# Altium footprint library BGT60LTR11AIP_Shield_V2.0.PcbLib: 14 footprints
Each footprint in its own frame and in the unit in brackets; x right, y up, seen from the top. Pads: shape width x height; smd on the part's side, far side on the other; paste and mask are expansions set on the pad; w line width, h text height; cw(c..) or ccw(c..) is an arc to the next point about the centre after c.
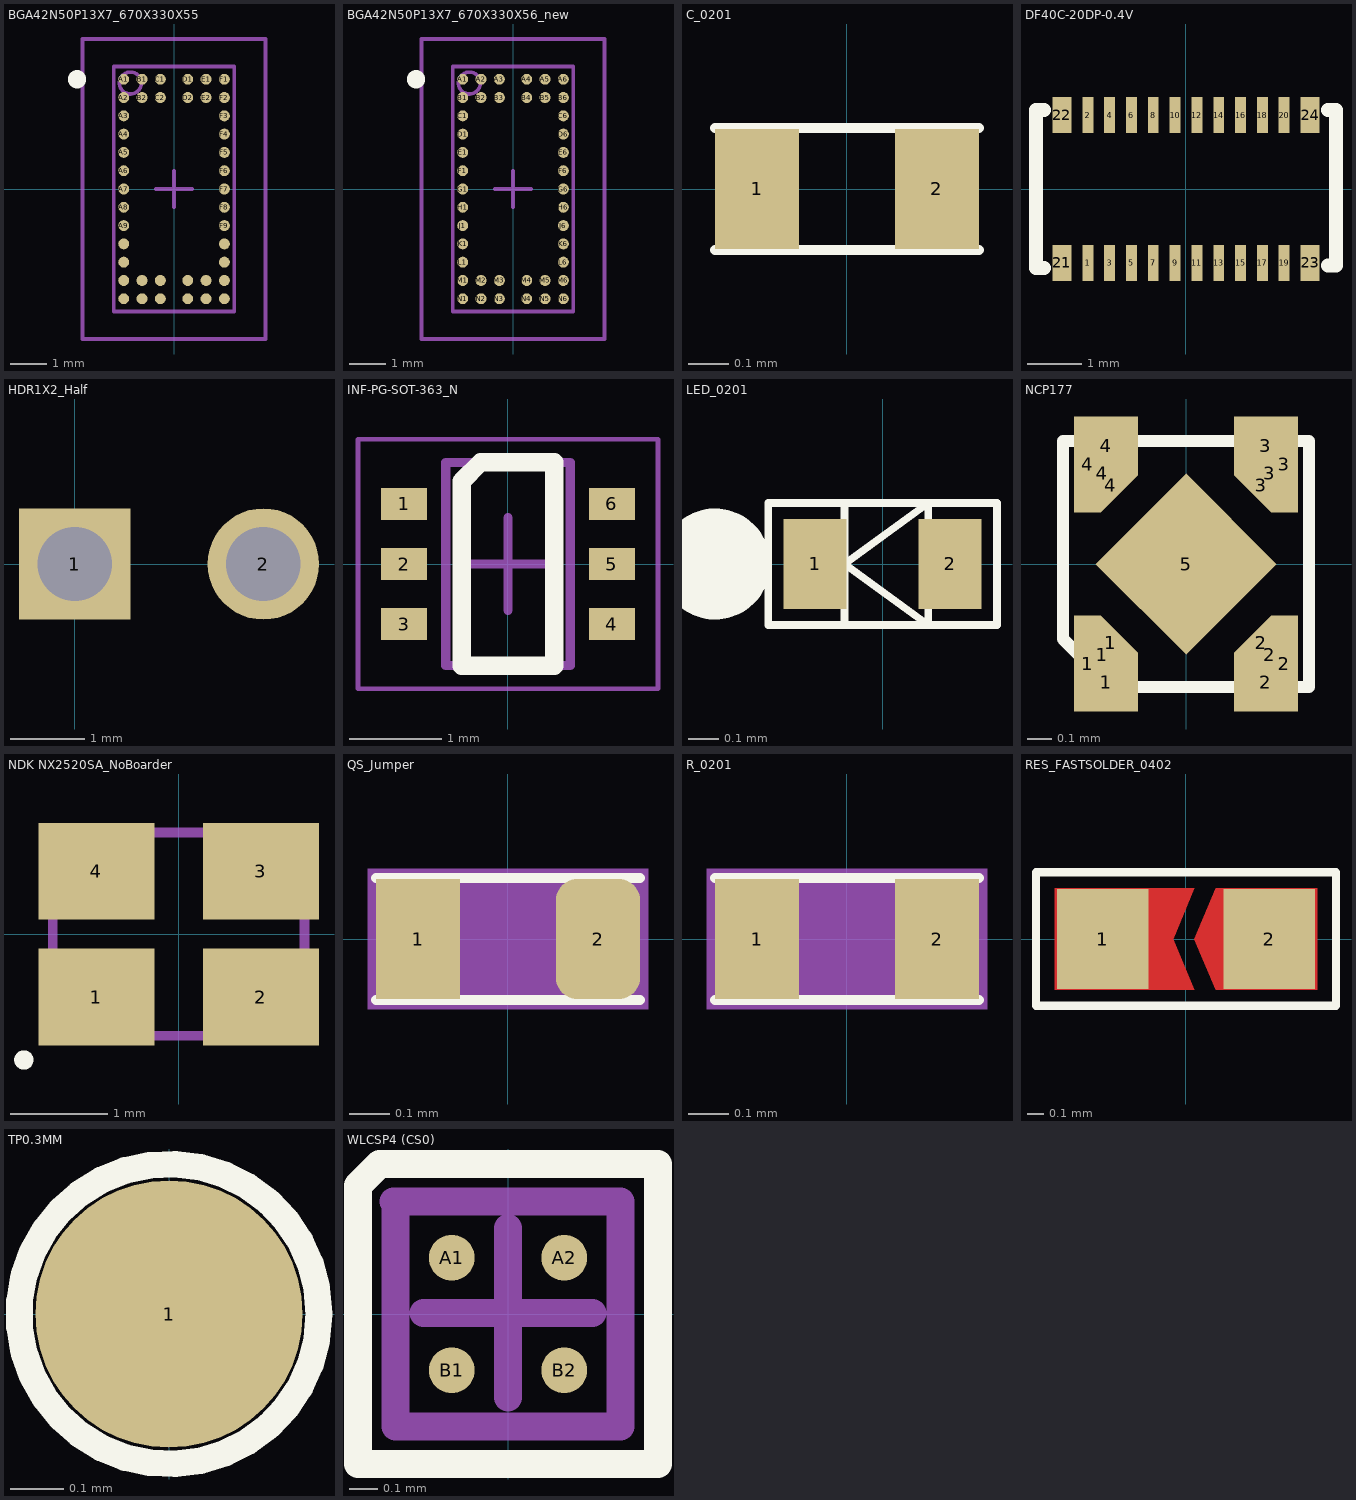
[diagram p0: the footprints below, top view; thin cyan lines are the x and y axes]

## BGA42N50P13X7_670X330X55 [mm] "BGA, SMD, 0.50 mm pitch, 42 pin, 3.30 mm X 6.70 mm X 0.552 mm H Body"
height 0.552
pads (42):
  round 0.3 smd paste+0 mask+0: A1(-1.375,3) A2(-1.375,2.5) A3(-1.375,2) A4(-1.375,1.5) A5(-1.375,1) A6(-1.375,0.5) A7(-1.375,0) A8(-1.375,-0.5) A9(-1.375,-1) A10(-1.375,-1.5) A11(-1.375,-2) A12(-1.375,-2.5) A13(-1.375,-3) B1(-0.875,3) B2(-0.875,2.5) B12(-0.875,-2.5) B13(-0.875,-3) C1(-0.375,3) C2(-0.375,2.5) C12(-0.375,-2.5) C13(-0.375,-3) D1(0.375,3) D2(0.375,2.5) D12(0.375,-2.5) D13(0.375,-3) E1(0.875,3) E2(0.875,2.5) E12(0.875,-2.5) E13(0.875,-3) F1(1.375,3) F2(1.375,2.5) F3(1.375,2) F4(1.375,1.5) F5(1.375,1) F6(1.375,0.5) F7(1.375,0) F8(1.375,-0.5) F9(1.375,-1) F10(1.375,-1.5) F11(1.375,-2) F12(1.375,-2.5) F13(1.375,-3)
Top Overlay:
  circle w0.25: c-2.65,3 r0.125
Mechanical 3:
  text ".DESIGNATOR" at 0,0 h1.2
Mechanical 13:
  circle w0.1: c-1.194,2.896 r0.3
  lines w0.1: -1.65,-3.35 -1.65,3.35 1.65,3.35 1.65,-3.35 -1.65,-3.35
Mechanical 15:
  lines w0.1: -0.5,0 0.5,0 ; 0,-0.5 0,0.5 ; -2.5,-4.1 -2.5,4.1 2.5,4.1 2.5,-4.1 -2.5,-4.1
3D body "BGA_0.5P_3.30X6.70X0.552.STEP": height 0.55, standoff 0, extent -1.65,-3.35 1.65,3.35

## BGA42N50P13X7_670X330X56_new [mm] "BGA, SMD, 0.50 mm pitch, 42 pin, 3.30 mm X 6.70 mm X 0.56 mm H Body"
height 0.56
pads (42):
  round 0.3 smd paste+0 mask+0: A1(-1.375,3) A2(-0.875,3) A3(-0.375,3) A4(0.375,3) A5(0.875,3) A6(1.375,3) B1(-1.375,2.5) B2(-0.875,2.5) B3(-0.375,2.5) B4(0.375,2.5) B5(0.875,2.5) B6(1.375,2.5) C1(-1.375,2) C6(1.375,2) D1(-1.375,1.5) D6(1.375,1.5) E1(-1.375,1) E6(1.375,1) F1(-1.375,0.5) F6(1.375,0.5) G1(-1.375,0) G6(1.375,0) H1(-1.375,-0.5) H6(1.375,-0.5) J1(-1.375,-1) J6(1.375,-1) K1(-1.375,-1.5) K6(1.375,-1.5) L1(-1.375,-2) L6(1.375,-2) M1(-1.375,-2.5) M2(-0.875,-2.5) M3(-0.375,-2.5) M4(0.375,-2.5) M5(0.875,-2.5) M6(1.375,-2.5) N1(-1.375,-3) N2(-0.875,-3) N3(-0.375,-3) N4(0.375,-3) N5(0.875,-3) N6(1.375,-3)
Top Overlay:
  circle w0.25: c-2.65,3 r0.125
Mechanical 3:
  text ".DESIGNATOR" at 0,0 h1.2
Mechanical 13:
  circle w0.1: c-1.194,2.896 r0.3
  lines w0.1: -1.65,-3.35 -1.65,3.35 1.65,3.35 1.65,-3.35 -1.65,-3.35
Mechanical 15:
  lines w0.1: -0.5,0 0.5,0 ; 0,-0.5 0,0.5 ; -2.5,-4.1 -2.5,4.1 2.5,4.1 2.5,-4.1 -2.5,-4.1
3D body "BGA-42_0.5P_3.30X6.70X0.56.STEP": height 0.56, standoff 0, extent -1.65,-3.35 1.65,3.35

## C_0201 [mm] "C_0201"
pads (2):
  rect 0.21x0.3 smd mask+0.051: 1(-0.225,0) 2(0.225,0)
Top Overlay:
  lines w0.025: -0.33,-0.152 0.33,-0.152 ; -0.33,0.152 0.33,0.152
3D body "User Library-cap_0201.step": height 0.3, standoff 0, extent -0.3,-0.15 0.3,0.15

## DF40C-20DP-0.4V [mm] "Hirose DF40C-20DP-0.4V"
height 1.75
pads (24):
  rect 0.2x0.66 smd: 1(-1.8,-1.355) 2(-1.8,1.355) 3(-1.4,-1.355) 4(-1.4,1.355) 5(-1,-1.355) 6(-1,1.355) 7(-0.6,-1.355) 8(-0.6,1.355) 9(-0.2,-1.355) 10(-0.2,1.355) 11(0.2,-1.355) 12(0.2,1.355) 13(0.6,-1.355) 14(0.6,1.355) 15(1,-1.355) 16(1,1.355) 17(1.4,-1.355) 18(1.4,1.355) 19(1.8,-1.355) 20(1.8,1.355)
  rect 0.35x0.66 smd: 21(-2.275,-1.355) 22(-2.275,1.355) 23(2.275,-1.355) 24(2.275,1.355)
Top Overlay:
  lines w0.254: -2.6,-1.45 -2.75,-1.45 -2.75,1.45 -2.6,1.45 ; 2.6,-1.4 2.75,-1.4 2.75,1.45 2.6,1.45
3D body "DF40C-20DP.stp": height 1.09, standoff -0.05, extent -2.76,-1.5 2.76,1.47

## HDR1X2_Half [mm] "Connector; Header; 2 Position"
height 0.5
pads (2):
  rect 1.5x1.5 hole 1: 1(0,0)
  round 1.5 hole 1: 2(2.54,0)

## INF-PG-SOT-363_N [mm] "SOT23, 3-Leads, Body 2x1.25mm, Pitch 0.65mm, IPC Medium Density"
height 1
pads (6):
  rect 0.5x0.35 smd: 1(-1.125,0.65) 2(-1.125,0) 3(-1.125,-0.65) 4(1.125,-0.65) 5(1.125,0) 6(1.125,0.65)
Top Overlay:
  lines w0.2: -0.5,-1.1 0.5,-1.1 0.5,1.1 -0.297,1.1 -0.5,0.897 -0.5,-1.1
Mechanical 13:
  lines w0.1: -0.675,-1.1 0.675,-1.1 0.675,1.1 -0.675,1.1 -0.675,-1.1
Mechanical 15:
  lines w0.05: -1.625,-1.35 1.625,-1.35 1.625,1.35 -1.625,1.35 -1.625,-1.35
  lines w0.1: -0.5,0 0.5,0 ; 0,-0.5 0,0.5
3D body "User Library-SOT363-1.step": height 1, standoff 0, extent -1.15,-1.05 1.15,1.05

## LED_0201 [mm] "LED_0201"
pads (2):
  rect 0.21x0.3 smd mask+0.051: 1(-0.225,0) 2(0.225,0)
Top Overlay:
  circle w0.25: c-0.559,0 r0.06
  lines w0.025: -0.127,-0.203 -0.127,0.203 ; -0.381,-0.203 0.381,-0.203 0.381,0.203 -0.381,0.203 -0.381,-0.203 ; -0.127,0 0.152,-0.203 0.152,0.203 -0.127,0
3D body: height 0.13, standoff 0, extent -0.3,-0.15 0.3,0.15

## NCP177 [mm] "LDO 500mA"
pads (17):
  rect 0.11x0.39 smd: 1(-0.4,-0.405) 2(0.4,-0.405) 3(0.4,0.405) 4(-0.4,0.405)
  rect 0.1x0.1 smd: 1(-0.34,-0.37) 2(0.34,-0.37) 3(0.34,0.37) 4(-0.34,0.37)
  rect 0.26x0.24 smd: 1(-0.325,-0.48) 2(0.325,-0.48) 3(0.325,0.48) 4(-0.325,0.48)
  rect 0.1x0.212 smd rot 45: 1(-0.305,-0.321) 3(0.305,0.321)
  rect 0.212x0.1 smd rot 45: 2(0.305,-0.321) 4(-0.305,0.321)
  rect 0.52x0.52 smd rot 45: 5(0,0)
Top Overlay:
  lines w0.05: -0.5,-0.305 -0.305,-0.5 0.5,-0.5 0.5,0.5 -0.5,0.5 -0.5,-0.305
3D body: height 0.4, standoff 0, extent -0.5,-0.5 0.5,0.5

## NDK NX2520SA_NoBoarder [mm] "Crystal, 4-Leads, Body 2.00x2.50mm, Pitch 1.70mm, IPC Medium Density"
height 0.5
pads (4):
  rect 1.2x1 smd: 1(-0.85,-0.65) 2(0.85,-0.65) 3(0.85,0.65) 4(-0.85,0.65)
Top Overlay:
  circle w0.1: c-1.6,-1.3 r0.05
Mechanical 13:
  lines w0.1: -1.3,-1.05 -1.3,1.05 1.3,1.05 1.3,-1.05 -1.3,-1.05
3D body "NDK NX2520SA.STEP": height 0.5, standoff 0, extent -1.26,-1.01 1.26,1.01

## QS_Jumper [mm] "R_0201"
pads (2):
  rect 0.21x0.3 smd mask+0.051: 1(-0.225,0)
  rrect50% 0.21x0.3 smd mask+0.051: 2(0.225,0)
Top Overlay:
  lines w0.025: -0.33,-0.152 0.33,-0.152 ; -0.33,0.152 0.33,0.152
Mechanical 12:
  pour cut-out: -0.35,-0.175 0.35,-0.175 0.35,0.175 -0.35,0.175
3D body: height 0.13, standoff 0, extent 0.152,-0.15 0.305,0.15
3D body: height 0.13, standoff 0, extent -0.305,-0.15 -0.152,0.15
3D body: height 0.13, standoff 0, extent -0.152,-0.15 0.152,0.15

## R_0201 [mm] "R_0201"
height 0.6
pads (2):
  rect 0.21x0.3 smd mask+0.051: 1(-0.225,0) 2(0.225,0)
Top Overlay:
  lines w0.025: -0.33,-0.152 0.33,-0.152 ; -0.33,0.152 0.33,0.152
Mechanical 12:
  pour cut-out: -0.35,-0.175 0.35,-0.175 0.35,0.175 -0.35,0.175
3D body: height 0.13, standoff 0, extent -0.152,-0.15 0.152,0.15
3D body: height 0.13, standoff 0, extent -0.305,-0.15 -0.152,0.15
3D body: height 0.13, standoff 0, extent 0.152,-0.15 0.305,0.15

## RES_FASTSOLDER_0402 [mm] "Chip Resistor, 2-Leads, Body 1,05x0,54mm, IPC High Density"
height 0.4
pads (2):
  rect 0.55x0.6 smd mask+0.051: 1(-0.5,0) 2(0.5,0)
Top Layer:
  region: 0.051,0.305 -0.076,0 0.051,-0.305 -0.787,-0.305 -0.787,0.305
  region: 0.051,0 0.178,0.305 0.787,0.305 0.787,-0.305 0.178,-0.305
  region: 0.051,0.305 -0.076,0 0.051,-0.305 -0.787,-0.305 -0.787,0.305
  region: 0.051,0 0.178,0.305 0.787,0.305 0.787,-0.305 0.178,-0.305
Top Overlay:
  lines w0.05: -0.9,-0.4 -0.9,0.4 0.9,0.4 0.9,-0.4 -0.9,-0.4
Top Paste:
  region: 0.051,0 0.178,0.305 0.787,0.305 0.787,-0.305 0.178,-0.305
  region: 0.051,0.305 -0.076,0 0.051,-0.305 -0.787,-0.305 -0.787,0.305
Top Solder:
  region: 0.051,0 0.178,0.305 0.787,0.305 0.787,-0.305 0.178,-0.305
  region: 0.051,0.305 -0.076,0 0.051,-0.305 -0.787,-0.305 -0.787,0.305
3D body: height 0.4, standoff 0, extent -0.35,-0.3 0.35,0.3
3D body: height 0.4, standoff 0, extent -0.55,-0.3 -0.35,0.3
3D body: height 0.4, standoff 0, extent 0.35,-0.3 0.55,0.3

## TP0.3MM [mm]
height 0.1
pads (1):
  round 0.5 smd: 1(0,0)
Top Overlay:
  circle w0.05: c0,0 r0.281

## WLCSP4 (CS0) [mm] "WLCSP Package, 0.4mm Pin Pitch"
height 0.295
pads (4):
  round 0.163 smd mask+0.05: A1(-0.2,0.2) A2(0.2,0.2) B1(-0.2,-0.2) B2(0.2,-0.2)
Top Overlay:
  lines w0.1: -0.533,-0.533 0.533,-0.533 0.533,0.533 -0.457,0.533 -0.533,0.457 -0.533,-0.533
Mechanical 1:
  lines w0.1: -0.4,-0.4 0.4,-0.4 0.4,0.4 -0.4,0.4 -0.4,-0.4
Mechanical 3:
  lines w0.1: -0.406,0.4 0.4,0.4 ; -0.4,0.4 -0.4,-0.4 0.4,-0.4 0.4,0.394 ; -0.301,0.004 0.301,0.004 ; 0,-0.297 0,0.305
3D body: height 0.23, standoff 0.07, extent -0.4,-0.4 0.4,0.4